# EAGLE library part BG_BMP280 (library BG_BMP280)
BMP280 Pressure sensor/altimeter ordered from banggood.com, 15.6mmx11.6mm, 6 pin, pins spaced at 1.3 mm footprint, symbol pins spaced @ 2.22857mm
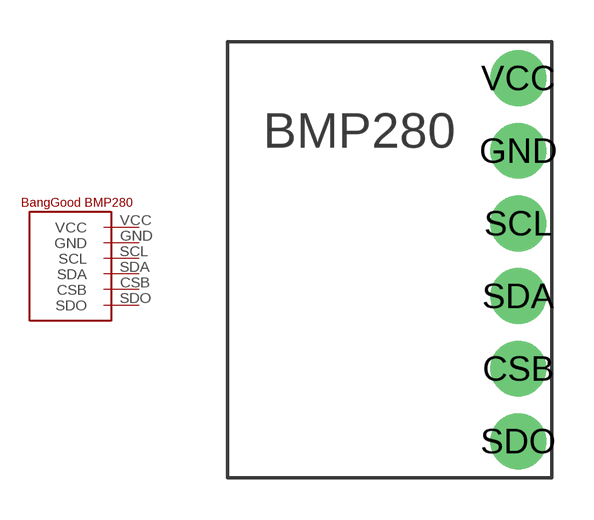
[diagram p0: symbol with the pads of 01BG_BMP280; footprint 01BG_BMP280]

Designator prefix -

## BG_BMP280  [01BG_BMP280]
CSB  CSB
GND  GND
SCL  SCL
SDA  SDA
SDO  SDO
VCC  VCC

## Footprint 01BG_BMP280 (pad centres in mm)
drill 0.85 pad 2: CSB 10.4,3.9; GND 10.4,11.7; SCL 10.4,9.1; SDA 10.4,6.5; SDO 10.4,1.3; VCC 10.4,14.3